# EAGLE library part ATMEL_328P (library AlectryonLib)
Ateml 8-bit Microprocessor ATmega328P
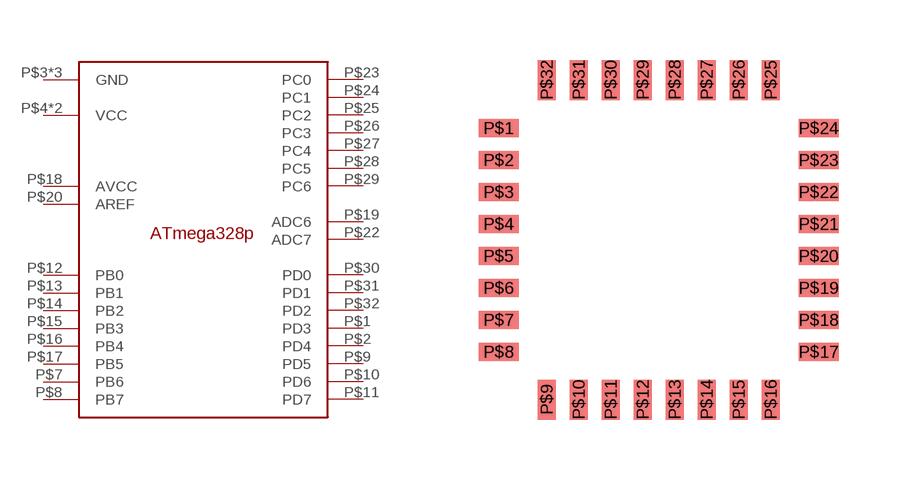
[diagram p0: symbol with the pads of ATMEL_8BIT_MCU; footprint ATMEL_8BIT_MCU]

Designator prefix -

## ATMEL_328P  [ATMEL_8BIT_MCU]
P$1  PD3
P$2  PD4
P$3  GND  pwr
P$4  VCC  pwr
P$5  GND  pwr
P$6  VCC  pwr
P$7  PB6
P$8  PB7
P$9  PD5
P$10  PD6
P$11  PD7
P$12  PB0
P$13  PB1
P$14  PB2
P$15  PB3
P$16  PB4
P$17  PB5
P$18  AVCC
P$19  ADC6
P$20  AREF
P$21  GND  pwr
P$22  ADC7
P$23  PC0
P$24  PC1
P$25  PC2
P$26  PC3
P$27  PC4
P$28  PC5
P$29  PC6
P$30  PD0
P$31  PD1
P$32  PD2

## Footprint ATMEL_8BIT_MCU (pad centres in mm)
32 Pin TQFP ATmega328P
smd 1 x 0.45: P$1 -4,2.8; P$2 -4,2; P$3 -4,1.2; P$4 -4,0.4; P$5 -4,-0.4; P$6 -4,-1.2; P$7 -4,-2; P$8 -4,-2.8; P$17 4,-2.8; P$18 4,-2; P$19 4,-1.2; P$20 4,-0.4; P$21 4,0.4; P$22 4,1.2; P$23 4,2; P$24 4,2.8
smd 0.45 x 1: P$9 -2.8,-4; P$10 -2,-4; P$11 -1.2,-4; P$12 -0.4,-4; P$13 0.4,-4; P$14 1.2,-4; P$15 2,-4; P$16 2.8,-4; P$25 2.8,4; P$26 2,4; P$27 1.2,4; P$28 0.4,4; P$29 -0.4,4; P$30 -1.2,4; P$31 -2,4; P$32 -2.8,4